# EAGLE library part TDA7253 (library Audio-Power-amlifier V.2.0)
8W AMPLIFIER WITH MUTING
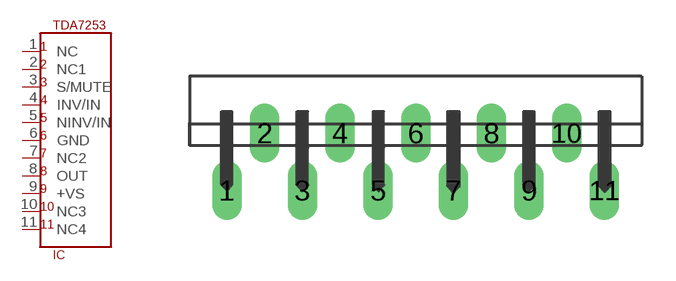
[diagram p30: symbol with the pads of CLIPWATT11; footprint CLIPWATT11]

Designator prefix IC

## TDA7253  [CLIPWATT11]
1  NC  nc
2  NC1  nc
3  S/MUTE
4  INV/IN  in
5  NINV/IN  in
6  GND  pwr
7  NC2  nc
8  OUT  out
9  +VS  pwr
10  NC3  nc
11  NC4  nc

## Footprint CLIPWATT11 (pad centres in mm)
drill 0.8 long: 1 -8.382,0; 2 -6.706,2.54; 3 -5.029,0; 4 -3.353,2.54; 5 -1.676,0; 6 0,2.54; 7 1.676,0; 8 3.353,2.54; 9 5.029,0; 10 6.706,2.54; 11 8.382,0